# Altium schematic symbol library TPS613771RYHR.SchLib: 2 symbols
Pins are listed as number, name and electrical type; pins without a type are passive.

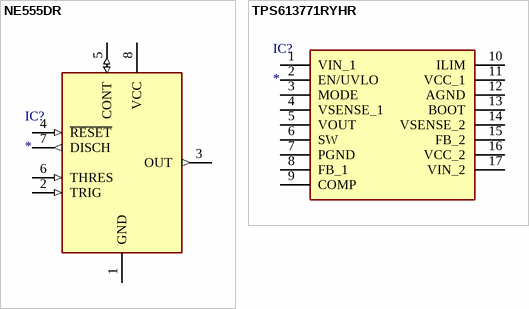
[diagram p0: symbols NE555DR to TPS613771RYHR]

## NE555DR
designator IC?
Integrated Circuit; Manufacturer_Name: Texas Instruments; Manufacturer_Part_Number: NE555DR; Datasheet Link: http://www.ti.com/lit/ds/symlink/ne555.pdf; Height: 1.75mm; Mouser Part Number: 595-NE555DR; Mouser Price/Stock: https://www.mouser.com/Search/Refine.aspx?Keyword=595-NE555DR; RS Part Number: 1218414; RS Price/Stock: http://uk.rs-online.com/web/p/products/1218414
footprint SOIC127P600X175-8N
pins: 1 GND (power), 2 TRIG (in), 3 OUT (out), 4 ~{RESET} (in), 5 CONT (io), 6 THRES (in), 7 DISCH (out), 8 VCC (power)

## TPS613771RYHR
designator IC?
Integrated Circuit; Manufacturer_Name: Texas Instruments; Manufacturer_Part_Number: TPS613771RYHR; Description: Switching Voltage Regulators FINISH GOODS FOR TPS613771; Datasheet Link: https://www.ti.com/lit/ds/symlink/tps61377.pdf; Height: 1mm; Mouser Part Number: 595-TPS613771RYHR; Mouser Price/Stock: https://www.mouser.co.uk/ProductDetail/Texas-Instruments/TPS613771RYHR?qs=Z%252BL2brAPG1K06hytL05E4w%3D%3D
footprint TPS61376RYHR
pins: 1 VIN_1, 2 EN/UVLO, 3 MODE, 4 VSENSE_1, 5 VOUT, 6 SW, 7 PGND, 8 FB_1, 9 COMP, 10 ILIM, 11 VCC_1, 12 AGND, 13 BOOT, 14 VSENSE_2, 15 FB_2, 16 VCC_2, 17 VIN_2